# Altium integrated library E209_Lib.IntLib: 35 symbols
Pins are listed as number, name and electrical type; pins without a type are passive.

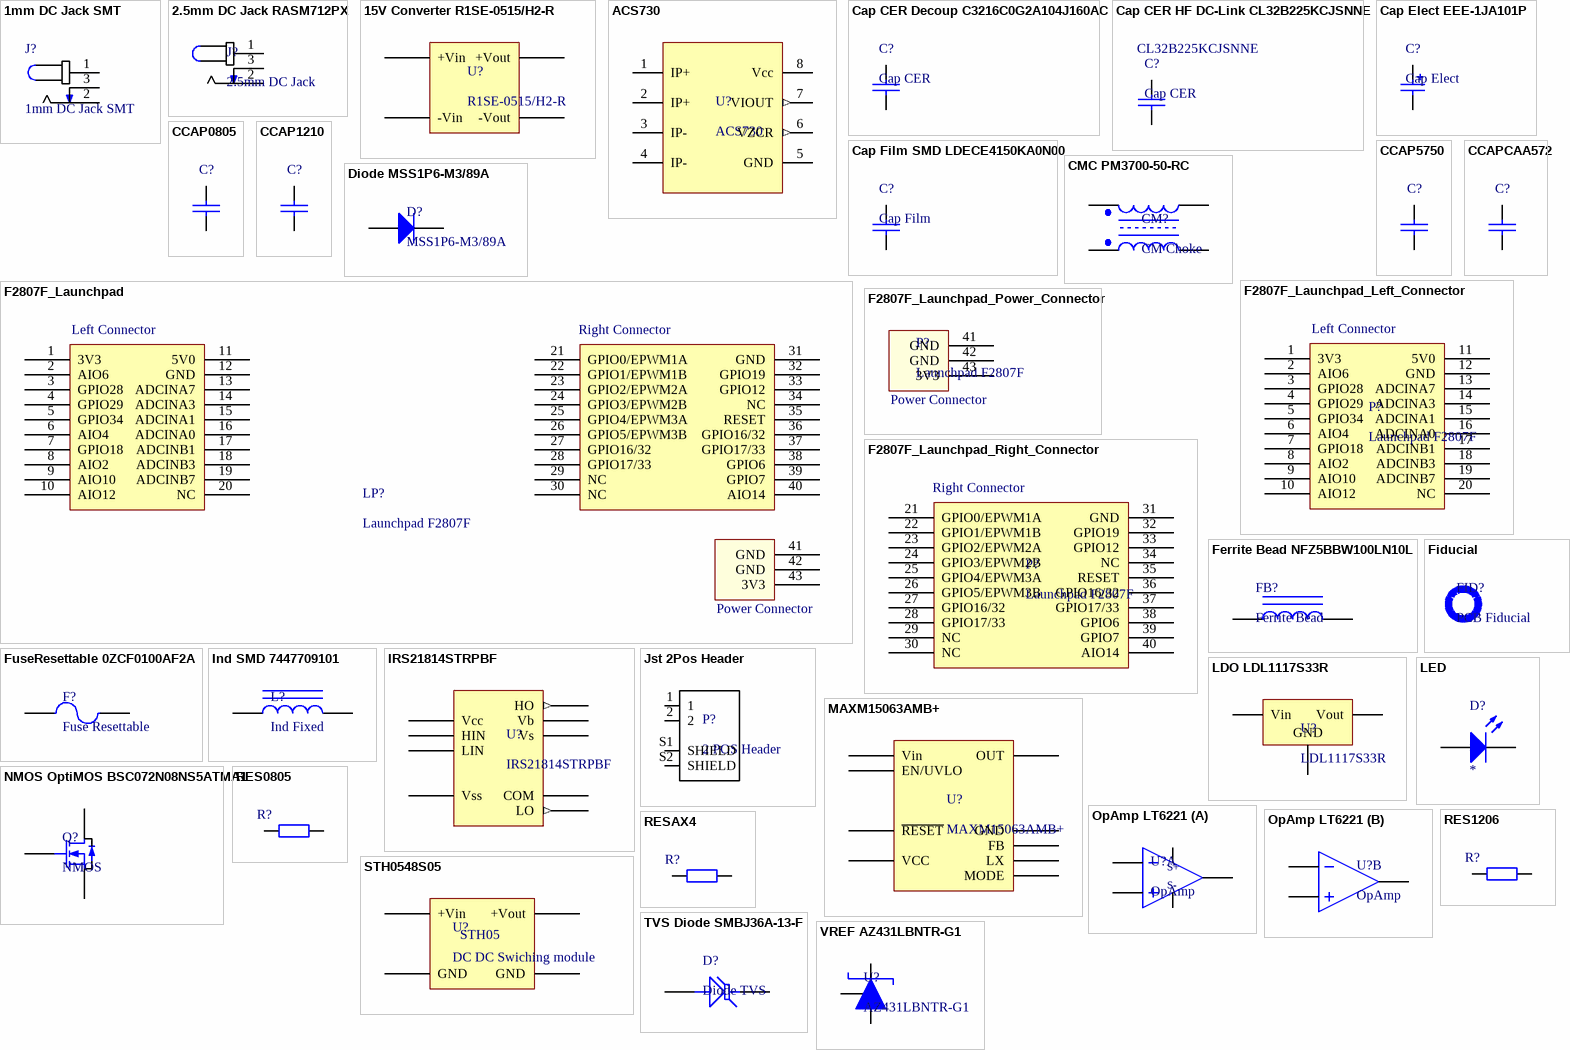
[diagram p0: symbols 1mm DC Jack SMT to VREF AZ431LBNTR-G1]

## 1mm DC Jack SMT
designator J?
CONN PWR JACK 1X3.4MM SOLDER; Manufacturer Part Number: PJ-014CH-SMT-TR; Manufacturer: CUI Devices; Type: Surface mount; Part Description: CONN PWR JACK 1X3.4MM SOLDER; Supplier Part Number 1: CP-014CHPJCT-ND; Supplier 1: Digi-Key; Supplier 2: Mouser; Supplier Part Number 2: 490-PJ-014CH-SMT-TR; Package: CUI_PJ-014CH-SMT-TR_PJ-014CH-SMT-TR
footprint CUI_PJ-014CH-SMT-TR_PJ-014CH-SMT-TR
pins: 1, 2, 3

## 2.5mm DC Jack RASM712PX
designator J?, comment 2.5mm DC Jack
CONN PWR JACK 2.5X5.5MM SOLDER; MPN: RASM712PX; Manufacturer: Switchcraft Inc.; Supplier 1: RSComponents; Supplier 2: Element14; Type: Surface mount; Part Description: CONN PWR JACK 2.5X5.5MM SOLDER; Supplier Part Number 4: 502-RASM-712PX; Supplier Part Number 3: RASM712PX-ND; Supplier Part Number 2: 2914543; Supplier Part Number 1: 878-4908; Supplier 4: Mouser; Supplier 3: Digi-Key; Package: RASM712PX
footprint RASM712PX
pins: 1, 2, 3

## 15V Converter R1SE-0515/H2-R
designator U?, comment R1SE-0515/H2-R
DC DC CONVERTER 15V 1W; Manufacturer: Recom Power; MPN: R1SE-0515/H2-R; Supplier 1: Element14; Type: Surface mount; Part Description: DC DC CONVERTER 15V 1W; Supplier 2: Digi-Key; Supplier Part Number 1: 2499573; Supplier 3: Mouser; Supplier Part Number 2: 945-2274-1-ND; Supplier Part Number 3: 919-R1SE-0515/H2-R
footprint R1SE-0515/H2-R
pins: 1 -Vin (power), 2 +Vin (power), 4 -Vout (power), 5 +Vout (power)

## ACS730
designator U?
1MHZ BANDWIDTH INTEGRATED, HALL; MPN: ACS730KLCTR-20AB-T; Manufacturer: Allegro MicroSystems; Supplier 1: Digikey; Supplier Part Number 1: 620-1794-6-ND; Type: Surface mount; Part Description: 1MHZ BANDWIDTH INTEGRATED, HALL; Supplier 2: Digi-Key; Supplier Part Number 2: 620-1792-1-ND
footprint SOIC8
pins: 1 IP+, 2 IP+ (power), 3 IP- (power), 4 IP-, 5 GND (power), 6 VZCR (out), 7 VIOUT (out), 8 Vcc (power)

## Cap CER Decoup C3216C0G2A104J160AC
designator C?, comment Cap CER
CAP CER 0.1UF 100V C0G 1206; MPN: C3216C0G2A104J160AC; Manufacturer: TDK Corporation; Type: Surface mount; Value: 100nF/100V; Supplier 1: RSComponents; Supplier Part Number 1: 1795799; Supplier 2: Element14; Part Description: CAP CER 0.1UF 100V C0G 1206; Supplier Part Number 4: 810-C3216C0G2A104J6C; Supplier Part Number 3: 445-172677-1-ND; Supplier Part Number 2: 2906828; Supplier 4: Mouser; Supplier 3: Digi-Key
footprint C1206 (Chip Capacitor, Body 3.2x1.6mm, IPC High Density)
pins: 1, 2

## Cap CER HF DC-Link CL32B225KCJSNNE
designator C?, comment Cap CER  Supplier Part Number 2: CL32B225KCJSNNE
CAP CER 2.2UF 100V X7R 1210; Manufacturer: AVX Corporation; Type: Surface mount; Value: 2200nF/100V; MPN: CL32B225KCJSNNE; Part Description: CAP CER 2.2UF 100V X7R 1210; Supplier 1: Digi-Key; Supplier Part Number 1: 1276-3362-1-ND; Supplier 2: Arrow
footprint C1210
pins: 1, 2

## Cap Elect EEE-1JA101P
designator C?, comment Cap Elect
CAP ALUM 100UF 20% 63V SMD; MPN: EEE-1JA101P; Manufacturer: Panasonic Electronic Components; Type: Surface mount; Value: 100uF/63V; Supplier 1: Element14; Supplier 2: RSComponents; Part Description: CAP ALUM 100UF 20% 63V SMD; Supplier Part Number 5: 2326162; Supplier Part Number 4: 667-EEE-1JA101P; Supplier Part Number 3: PCE3942CT-ND; Supplier Part Number 2: 8675548; Supplier Part Number 1: 2284838; Supplier 5: Element14; Supplier 4: Mouser; Supplier 3: Digi-Key
footprint EEE-1JA101P (CAP ALUM 100UF 20% 63V SMD)
pins: 1, 2

## Cap Film SMD LDECE4150KA0N00
designator C?, comment Cap Film
CAP FILM 1.5UF 10% 50VDC 2824; MPN: LDECE4150KA0N00; Manufacturer: KEMET; Type: Surface mount; Value: 1.5uF/50V; Supplier 1: Element14; Supplier 2: RSComponents; Part Description: CAP FILM 1.5UF 10% 50VDC 2824; Supplier Part Number 4: 80-LDECE4150KA0N00; Supplier Part Number 3: 399-12858-1-ND; Supplier Part Number 2: 1650342; Supplier Part Number 1: 2495712; Supplier 4: Mouser; Supplier 3: Digi-Key
footprint LDECE4150KA0N00
pins: 1, 2

## CCAP0805
designator C?, comment Capacitor 0805  (value not drawn)
CCAP0805; Type: Surface Mount; MPN: ?; Value: ?; Part Description: ?
footprint C0805
pins: 1, 2

## CCAP1210
designator C?  (value not drawn)
Type: Surface Mount; MPN: ?; Value: ?; Part Description: ?
footprint C1210
pins: 1, 2

## CCAP5750
designator C?  (value not drawn)
CCAP1210; Type: Surface Mount; MPN: ?; Value: ?; Part Description: ?
footprint C5750 (C5750 footprint)
pins: 1, 2

## CCAPCAA572
designator C?  (value not drawn)
CAA572 ceramic caps; Type: Surface Mount; MPN: ?; Part Description: ?; Value: ?
footprint CAA572 (Chip Capacitor, 2-Leads, Body 6.25x5.75mm, IPC Low Density)
pins: 1, 2

## CMC PM3700-50-RC
designator CM?, comment CM Choke
CMC 2MH 3.5A 2LN SMD; MPN: PM3700-50-RC; Manufacturer: Bourns Inc.; Type: Surface mount; Part Description: CMC 2MH 3.5A 2LN SMD; Supplier Part Number 4: 1103574; Supplier Part Number 3: 542-PM3700-50-RC; Supplier Part Number 2: 7361147; Supplier Part Number 1: M3939CT-ND; Supplier 4: Element14; Supplier 3: Mouser; Supplier 2: RSComponents; Supplier 1: Digi-Key
footprint PM3700-50-RC
pins: 1, 2, 3, 4

## Diode MSS1P6-M3/89A
designator D?, comment MSS1P6-M3/89A
DIODE SCHOTTKY 60V 1A MICROSMP; Manufacturer: Vishay Semiconductor Diodes Division; Type: Surface mount; MPN: MSS1P6-M3/89A; Supplier 1: RSComponents; Supplier 2: Element14; Part Description: DIODE SCHOTTKY 60V 1A MICROSMP; Supplier Part Number 2: 2335157; Supplier Part Number 1: 7103070P
footprint MicroSMP (DO-219AD)
pins: 1 A, 2 K

## F2807F_Launchpad
designator LP?, comment Launchpad F2807F
LAUNCHPAD TMS320F28027 EVAL BRD; MPN: LAUNCHXL-F28027F; Manufacturer: Texas Instruments; Supplier 1: RSComponents; Supplier 2: Element14; Type: Surface mount; Part Description: LAUNCHPAD TMS320F28027 EVAL BRD; Supplier Part Number 1: 9055040; Supplier Part Number 2: 3009880
footprint C2000_LaunchPad_TH
footprint C2000_LaunchPad_SMD
pins: 1 3V3, 2 AIO6, 3 GPIO28, 4 GPIO29, 5 GPIO34, 6 AIO4, 7 GPIO18, 8 AIO2, 9 AIO10, 10 AIO12, 11 5V0, 12 GND, 13 ADCINA7, 14 ADCINA3, 15 ADCINA1, 16 ADCINA0, 17 ADCINB1, 18 ADCINB3, 19 ADCINB7, 20 NC, 21 GPIO0/EPWM1A, 22 GPIO1/EPWM1B, 23 GPIO2/EPWM2A, 24 GPIO3/EPWM2B, 25 GPIO4/EPWM3A, 26 GPIO5/EPWM3B, 27 GPIO16/32, 28 GPIO17/33, 29 NC, 30 NC, 31 GND, 32 GPIO19, 33 GPIO12, 34 NC, 35 RESET, 36 GPIO16/32, 37 GPIO17/33, 38 GPIO6, 39 GPIO7, 40 AIO14, 41 GND, 42 GND, 43 3V3
text: Left Connector; Right Connector; Power Connector

## F2807F_Launchpad_Left_Connector
designator P?, comment Launchpad F2807F
LAUNCHPAD TMS320F28027 Left connector; MPN: 54202-G0810LF; Part Description: CONN HEADER SMD 20POS 2.54MM; Manufacturer: Amphenol ICC (FCI); Type: Surface mount; Supplier 1: Digi-Key; Supplier 2: Mouser; Supplier Part Number 1: 609-5603-ND; Supplier Part Number 2: 649-54202-G0810LF
footprint SMD 2x20 Male 54202-G0810LF (Headers & Wire Housings 20P UNSHRD VERT HDR .76 MICROMETER AU)
pins: 1 3V3, 2 AIO6, 3 GPIO28, 4 GPIO29, 5 GPIO34, 6 AIO4, 7 GPIO18, 8 AIO2, 9 AIO10, 10 AIO12, 11 5V0, 12 GND, 13 ADCINA7, 14 ADCINA3, 15 ADCINA1, 16 ADCINA0, 17 ADCINB1, 18 ADCINB3, 19 ADCINB7, 20 NC
text: Left Connector

## F2807F_Launchpad_Power_Connector
designator P?, comment Launchpad F2807F
LAUNCHPAD TMS320F28027 Power Connector; MPN: TSM-103-01-L-SV; Part Description: CONN HEADER SMD 3POS 2.54MM; Manufacturer: Samtec Inc.; Type: Surface mount; Supplier Part Number 4: 1800226; Supplier Part Number 3: 2578716; Supplier Part Number 2: 200-TSM10301LSV; Supplier Part Number 1: SAM8981-ND; Supplier 4: RSComponents; Supplier 3: Element14; Supplier 2: Mouser; Supplier 1: Digi-Key
footprint TSM-103-01-L-SV
pins: 41 GND, 42 GND, 43 3V3
text: Power Connector

## F2807F_Launchpad_Right_Connector
designator P?, comment Launchpad F2807F
LAUNCHPAD TMS320F28027 EVAL BRD; MPN: 54202-G0810LF; Part Description: CONN HEADER SMD 20POS 2.54MM; Manufacturer: Amphenol ICC (FCI); Type: Surface mount; Supplier 1: Digi-Key; Supplier Part Number 1: 609-5603-ND; Supplier 2: Mouser; Supplier Part Number 2: 649-54202-G0810LF
footprint SMD 2x20 Male 54202-G0810LF - 21_to_40 (Headers & Wire Housings 20P UNSHRD VERT HDR .76 MICROMETER AU)
pins: 21 GPIO0/EPWM1A, 22 GPIO1/EPWM1B, 23 GPIO2/EPWM2A, 24 GPIO3/EPWM2B, 25 GPIO4/EPWM3A, 26 GPIO5/EPWM3B, 27 GPIO16/32, 28 GPIO17/33, 29 NC, 30 NC, 31 GND, 32 GPIO19, 33 GPIO12, 34 NC, 35 RESET, 36 GPIO16/32, 37 GPIO17/33, 38 GPIO6, 39 GPIO7, 40 AIO14
text: Right Connector

## Ferrite Bead NFZ5BBW100LN10L
designator FB?, comment Ferrite Bead
FERRITE BEAD 10 OHM 2020 1LN; MPN: NFZ5BBW100LN10L; Manufacturer: Murata Electronics; Type: Surface mount; Part Description: FERRITE BEAD 10 OHM 2020 1LN; Supplier Part Number 2: 81-NFZ5BBW100LN10L; Supplier Part Number 1: 490-12168-1-ND; Supplier 2: Mouser; Supplier 1: Digi-Key
footprint NFZ5BBW100LN10L (FERRITE BEAD 10 OHM 2020 1LN)
pins: 1, 2

## Fiducial
designator FID?, comment PCB Fiducial
Fiducial Marker for PnP machine
footprint Fiducial_1.5mm

## FuseResettable 0ZCF0100AF2A
designator F?, comment Fuse Resettable
PTC RESET FUSE 60V 1A 2920; MPN: 0ZCF0100AF2A; Manufacturer: Bel Fuse Inc.; Type: Surface mount; Value: 60V/1A; Part Description: PTC RESET FUSE 60V 1A 2920; Supplier Part Number 2: 530-0ZCF0100AF2A; Supplier Part Number 1: 507-2070-1-ND; Supplier 2: Mouser; Supplier 1: Digi-Key
footprint 0ZCF Series (0ZCF Series SMD Reset Fuse)
pins: 1, 2

## Ind SMD 7447709101
designator L?, comment Ind Fixed
FIXED IND 100UH 2.5A 110 MOHM; MPN: 7447709101; Manufacturer: Würth Elektronik; Type: Surface mount; Value: 100uH/2.5A; Supplier 1: Element14; Supplier 2: RSComponents; Part Description: FIXED IND 100UH 2.5A 110 MOHM; Supplier Part Number 1: 1635948; Supplier Part Number 2: 1241890P; Supplier Part Number 4: 710-7447709101; Supplier Part Number 3: 732-1248-2-ND; Supplier 4: Mouser; Supplier 3: Digi-Key
footprint 7447709101 (FIXED IND 100UH 2.5A 110 MOHM)
pins: 1, 2

## IRS21814STRPBF
designator U?
IC GATE DRVR HALF-BRIDGE 14SOIC; Manufacturer: Infineon Technologies; MPN: IRS21814STRPBF; Supplier 1: Element14; Type: Surface mount; Part Description: IC GATE DRVR HALF-BRIDGE 14SOIC; Supplier Part Number 2: IRS21814STRPBFCT-ND; Supplier Part Number 1: 3234273; Supplier 3: Mouser; Supplier 2: Digi-Key; Supplier Part Number 3: 942-IRS21814STRPBF
footprint SOIC127P600X175-14N (SOIC, 14-Leads, Body 8.65x3.90mm, Pitch 1.27mm, IPC Medium Density)
pins: 1 HIN, 2 LIN, 3 Vss (power), 5 COM (power), 6 LO (out), 7 Vcc (power), 11 Vs (power), 12 HO (out), 13 Vb (power)

## Jst 2Pos Header
designator P?, comment 2 POS Header
CONN HEADER SMD R/A 2POS 2MM; MPN: S2B-PH-SM4-TB(LF)(SN); Manufacturer: JST Sales America Inc.; Part Description: CONN HEADER SMD R/A 2POS 2MM; Type: Surface Mount; Supplier 1: RSComponents; Supplier 2: Element14; Supplier Part Number 1: 6881353; Supplier Part Number 2: 9492615RL
footprint JST_S2B-PH-SM4-TB(LF)(SN)_S2B-PH-SM4-TB(LF)(SN)(Primary) (CONN HEADER SMD R/A 2POS 2MM)
pins: 1, 2, S1 SHIELD, S2 SHIELD

## LDO LDL1117S33R
designator U?, comment LDL1117S33R
IC REG LINEAR 3.3V 1.2A SOT223; Manufacturer: STMicroelectronics; Value: 3.3V/1.2A; MPN: LDL1117S33R; Supplier 1: Element14; Type: Surface mount; Part Description: IC REG LINEAR 3.3V 1.2A SOT223; Supplier Part Number 3: 511-LDL1117S33R; Supplier Part Number 2: 497-17239-1-ND; Supplier Part Number 1: 2729708; Supplier 3: Mouser; Supplier 2: Digi-Key
footprint SOT223L (SOT223/SC73, 4-Leads, Body 6.5x3.5mm, Pitch 2.3mm, Lead Span 7mm, IPC Low Density)
pins: 1 GND, 2 Vout, 3 Vin

## LED
designator D?
LED; Type: Surface Mount; Manufacturer: ?; MPN: ?; Package: ?
footprint LEDTH (LED through hole)
footprint LED0805
pins: 1 A, 2 K

## MAXM15063AMB+
designator U?
MOD DCDC CONVERTER 5V 10USLIC; Manufacturer: Maxim Integrated; MPN: MAXM15063AMB+; Supplier 1: Element14; Type: Surface mount; Part Description: MOD DCDC CONVERTER 5V 10USLIC; Supplier Part Number 3: 700-MAXM15063AMB+; Supplier Part Number 2: MAXM15063AMB+-ND; Supplier Part Number 1: 3126327; Supplier 3: Mouser; Supplier 2: Digi-Key
footprint 21-100094F_M1001_modified
pins: 1 LX, 2 GND (power), 3 ~{RESET}, 4 MODE, 5 OUT (power), 6 FB, 7 VCC (power), 8 EN/UVLO, 9 Vin (power)

## NMOS OptiMOS BSC072N08NS5ATMA1
designator Q?, comment NMOS
MOSFET N-CH 80V 74A 8TDSON; MPN: BSC072N08NS5ATMA1; Manufacturer: Infineon Technologies; Type: Surface mount; Supplier 1: Element14; Part Description: MOSFET N-CH 80V 74A 8TDSON; Supplier Part Number 3: 726-BSC072N08NS5ATMA; Supplier Part Number 1: 2725812; Supplier 3: Mouser; Supplier Part Number 2: BSC072N08NS5ATMA1CT-ND; Supplier 2: Digi-Key
footprint BSC072N08NS5ATMA1
footprint BSC072N08NS5ATMA1_modified
footprint BSC072N08NS5ATMA1_modified_v2
pins: 1 S, 4 G, 8 D

## OpAmp LT6221
designator U?, comment OpAmp
IC OPAMP GP 2 CIRCUIT 8SO; MPN: LT6221CS8#PBF; Manufacturer: Linear Technology/Analog Devices; Supplier 1: Element14; Supplier 2: RSComponents; Type: Surface mount; Part Description: IC OPAMP GP 2 CIRCUIT 8SO; Supplier Part Number 5: 584-LT6221CS8#PBF; Supplier Part Number 4: 5061189; Supplier Part Number 3: LT6221CS8#PBF-ND; Supplier Part Number 2: 5061189P; Supplier Part Number 1: 1330761; Supplier 5: Mouser; Supplier 4: RSComponents; Supplier 3: Digi-Key
footprint SOIC8
part A pins: 1 OutA, 2 InA-, 3 InA+, 4 Vs-, 8 Vs+
part B pins: 5 InB+, 6 InB-, 7 OutB
part A text: S+; S-

## RES0805
designator R?, comment Resistor 0805  (value not drawn)
RES0805; MPN: ?; Value: ?; Part Description: ?; Type: Surface Mount
footprint R0805
pins: 1, 2

## RES1206
designator R?, comment Resistor 1206  (value not drawn)
RES1206; MPN: ?; Type: Surface Mount; Value: ?; Part Description: ?
footprint R1206 (Chip Resistor, 2-Leads, Body 3.20x1.60mm, IPC Low Density)
pins: 1, 2

## RESAX4
designator R?, comment Resistor  (value not drawn)
Axial Resistor; MPN: ?; Type: Through Hole; Value: ?; Part Description: ?
footprint RAX4
pins: 1, 2

## STH0548S05
designator U?, comment DC DC Swiching module
DC-DC SWITCHING REGULATOR, 0.5A; MPN: STH0548S05; Part Description: DC-DC SWITCHING REGULATOR, 0.5A
footprint STH0548S05
pins: 1 +Vin, 5 +Vout, 7 GND, 9 GND
text: STH05

## TVS Diode SMBJ36A-13-F
designator D?, comment Diode TVS
TVS DIODE 36V 58.1V SMB; MPN: SMBJ36A-13-F; Manufacturer: Diodes Incorporated; Type: Surface mount; Supplier 1: Element14; Part Description: TVS DIODE 36V 58.1V SMB; Supplier Part Number 3: 621-SMBJ36A-13-F; Supplier Part Number 2: SMBJ36A-FDICT-ND; Supplier Part Number 1: 3127483; Supplier 3: Mouser; Supplier 2: Digi-Key
footprint SMB (DO-214-AA/SMB; 2 C-Bend Leads; Body 5.3 x 3.6 mm, inc. leads (LxW))
pins: 1 A, 2 K

## VREF AZ431LBNTR-G1
designator U?, comment AZ431LBNTR-G1
IC VREF SHUNT 18V 1% SOT23-3; Manufacturer: Diodes Incorporated; MPN: AZ431LBNTR-G1; Supplier 1: RSComponents; Type: Surface mount; Part Description: IC VREF SHUNT 18V 1% SOT23-3; Supplier Part Number 2: AZ431LBNTR-G1DICT-ND; Supplier Part Number 1: 9210710; Supplier 3: Mouser; Supplier 2: Digi-Key; Supplier Part Number 3: 621-AZ431LBNTR-G1
footprint SOT-23-L
pins: 1 Ref, 2 K, 3 A